# Altium schematic symbol library XRCGB26M000F1H02R0.SchLib: 1 symbol
Pins are listed as number, name and electrical type; pins without a type are passive.

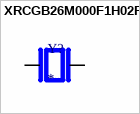
[diagram p0: symbol XRCGB26M000F1H02R0]

## XRCGB26M000F1H02R0
designator Y?
27MHz Â±20ppm Crystal 6pF 150 Ohms 4-SMD, No Lead; MP: XRCGB26M000F1H02R0; MF: {'manufacturer': u'Murata Electronics'}; Value: *; Availability: Unavailable; Price: None; Package: None
footprint OSC_XRCGB26M000F1H02R0
pins: 1, 3